# EAGLE library part RN-4-SMT (library parts)
4 resistor package
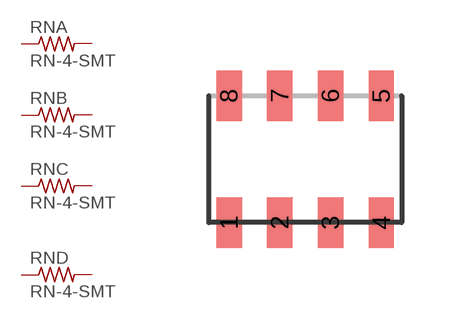
[diagram p2: symbol with the pads of RN-CTS-744C043; footprint RN-CTS-744C043]

Designator prefix RN; gates A=R B=R C=R D=R

## RN-4-SMT  [RN-CTS-744C043]
1  A:1  pas
2  B:1  pas
3  C:1  pas
4  D:1  pas
5  D:2  pas
6  C:2  pas
7  B:2  pas
8  A:2  pas

## Footprint RN-CTS-744C043 (pad centres in mm)
smd 0.635 x 1.27: 1 -1.905,-1.905; 2 -0.635,-1.905; 3 0.635,-1.905; 4 1.905,-1.905; 5 1.905,1.27; 6 0.635,1.27; 7 -0.635,1.27; 8 -1.905,1.27